# EAGLE library part TXM-900-HP3_SIP (library My_Parts)
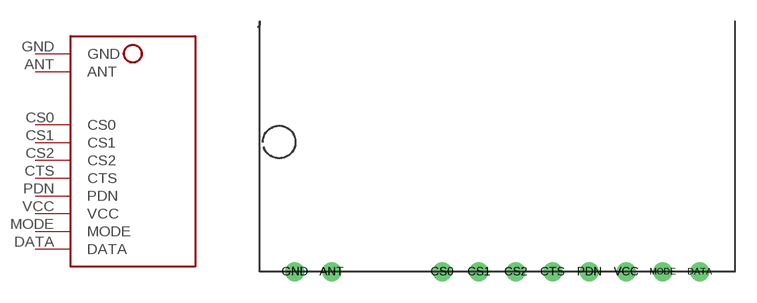
[diagram p1: symbol with the pads of PIN/DIP; footprint PIN/DIP]

Designator prefix -

## TXM-900-HP3_SIP  [PIN/DIP]
ANT  ANT
CS0  CS0
CS1  CS1
CS2  CS2
CTS  CTS
DATA  DATA
GND  GND
MODE  MODE
PDN  PDN
VCC  VCC

## Footprint PIN/DIP (pad centres in mm)
drill 0.8 pad 0.762 round: ANT -11.43,-8.636; CS0 -3.81,-8.636; CS1 -1.27,-8.636; CS2 1.27,-8.636; CTS 3.81,-8.636; DATA 13.97,-8.636; GND -13.97,-8.636; MODE 11.43,-8.636; PDN 6.35,-8.636; VCC 8.89,-8.636